# EAGLE library part Z80_CPU (library rcbussbc)
Z84C00/U880 CPU Source: Datasheet </home/laszlo/zilog/Z80_FAMILY/CPU_U880/z80_cpu.pdf>
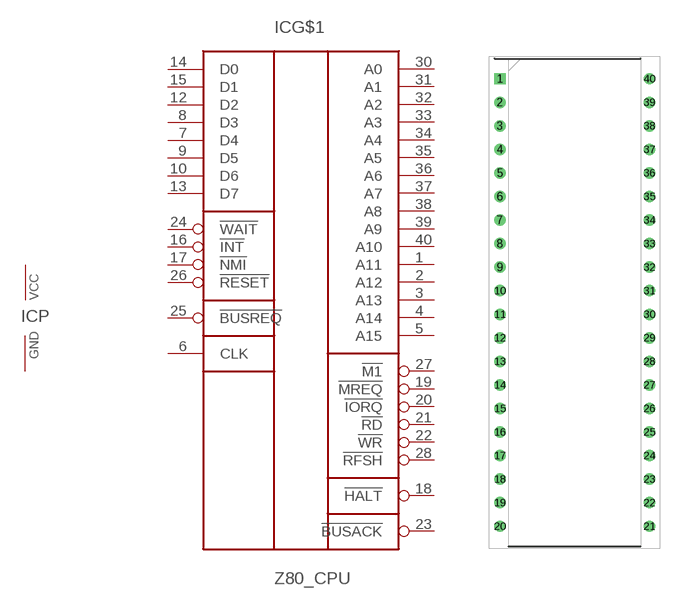
[diagram p14: symbol with the pads of DIP1612W53P254L5232H406Q40N; footprint DIP1612W53P254L5232H406Q40N]

Designator prefix IC; gates G$1=Z80_CPU P=PWRN:1

## Z80_CPU  [DIP1612W53P254L5232H406Q40N]
1  G$1:A11  out
2  G$1:A12  out
3  G$1:A13  out
4  G$1:A14  out
5  G$1:A15  out
6  G$1:CLK  in
7  G$1:D4
8  G$1:D3
9  G$1:D5
10  G$1:D6
11  P:VCC  pwr
12  G$1:D2
13  G$1:D7
14  G$1:D0
15  G$1:D1
16  G$1:!INT  in
17  G$1:!NMI  in
18  G$1:!HALT  out
19  G$1:!MREQ  out
20  G$1:!IORQ  out
21  G$1:!RD  out
22  G$1:!WR  out
23  G$1:!BUSACK  out
24  G$1:!WAIT  in
25  G$1:!BUSREQ  in
26  G$1:!RESET  in
27  G$1:!M1  out
28  G$1:!RFSH  out
29  P:GND  pwr
30  G$1:A0  out
31  G$1:A1  out
32  G$1:A2  out
33  G$1:A3  out
34  G$1:A4  out
35  G$1:A5  out
36  G$1:A6  out
37  G$1:A7  out
38  G$1:A8  out
39  G$1:A9  out
40  G$1:A10  out

## Footprint DIP1612W53P254L5232H406Q40N (pad centres in mm)
PDIP-40
drill 0.73 pad 1.13 square: 1 -8.062,24.13
drill 0.73 pad 1.13: 2 -8.062,21.59; 3 -8.062,19.05; 4 -8.062,16.51; 5 -8.062,13.97; 6 -8.062,11.43; 7 -8.062,8.89; 8 -8.062,6.35; 9 -8.062,3.81; 10 -8.062,1.27; 11 -8.062,-1.27; 12 -8.062,-3.81; 13 -8.062,-6.35; 14 -8.062,-8.89; 15 -8.062,-11.43; 16 -8.062,-13.97; 17 -8.062,-16.51; 18 -8.062,-19.05; 19 -8.062,-21.59; 20 -8.062,-24.13; 21 8.062,-24.13; 22 8.062,-21.59; 23 8.062,-19.05; 24 8.062,-16.51; 25 8.062,-13.97; 26 8.062,-11.43; 27 8.062,-8.89; 28 8.062,-6.35; 29 8.062,-3.81; 30 8.062,-1.27; 31 8.062,1.27; 32 8.062,3.81; 33 8.062,6.35; 34 8.062,8.89; 35 8.062,11.43; 36 8.062,13.97; 37 8.062,16.51; 38 8.062,19.05; 39 8.062,21.59; 40 8.062,24.13